# Altium footprint library MAX30205 - TQFN8_1.PcbLib: 1 footprints
Each footprint in its own frame and in the unit in brackets; x right, y up, seen from the top. Pads: shape width x height; smd on the part's side, far side on the other; paste and mask are expansions set on the pad; w line width, h text height; cw(c..) or ccw(c..) is an arc to the next point about the centre after c.
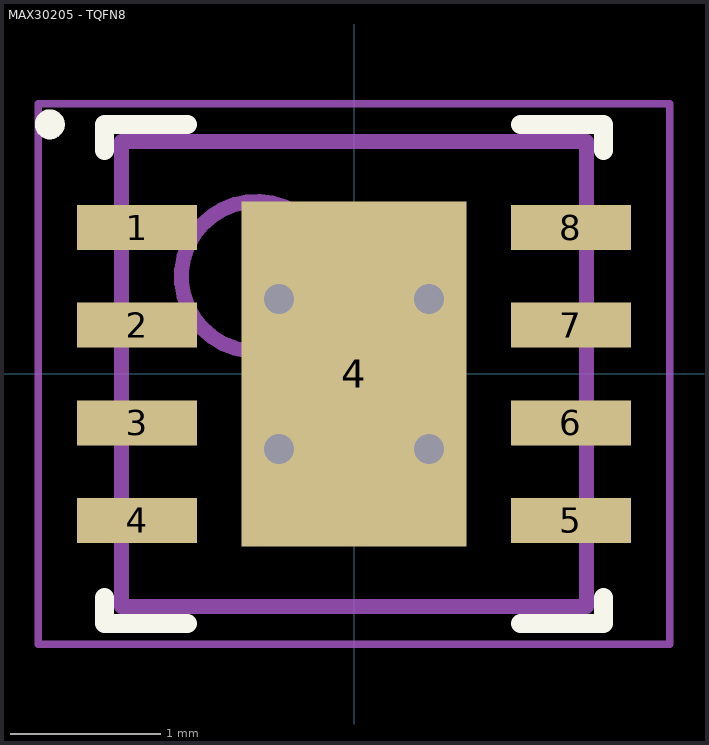
[diagram p0: the footprint, top view; thin cyan lines are the x and y axes]

## MAX30205 - TQFN8 [mm]
height 0.8
pads (9):
  rect 0.8x0.3 smd: 1(-1.445,0.975) 2(-1.445,0.325) 3(-1.445,-0.325) 4(-1.445,-0.975) 5(1.445,-0.975) 6(1.445,-0.325) 7(1.445,0.325) 8(1.445,0.975)
  rect 1.5x2.3 smd paste-0.75: 4(0,0)
via 0.5,-0.5 diameter 0.5 hole 0.2
via -0.5,-0.5 diameter 0.5 hole 0.2
via 0.5,0.5 diameter 0.5 hole 0.2
via -0.5,0.5 diameter 0.5 hole 0.2
Top Overlay:
  circle w0.1: c-2.027,1.663 r0.05
  lines w0.127: -1.664,-1.489 -1.664,-1.664 -1.109,-1.664 ; -1.664,1.488 -1.664,1.663 -1.109,1.663 ; 1.108,-1.664 1.663,-1.664 1.663,-1.489 ; 1.108,1.663 1.663,1.663 1.663,1.488
Top Paste:
  rectangle: 0.64,-2.12 1.52,-0.84
  rectangle: 0.64,-0.64 1.52,0.64
  rectangle: 0.64,0.84 1.52,2.12
  rectangle: -0.44,-2.12 0.44,-0.84
  rectangle: -0.44,-0.64 0.44,0.64
  rectangle: -0.44,0.84 0.44,2.12
  rectangle: -1.52,-2.12 -0.64,-0.84
  rectangle: -1.52,-0.64 -0.64,0.64
  rectangle: -1.52,0.84 -0.64,2.12
Mechanical 13:
  circle w0.1: c-0.65,0.65 r0.5
  lines w0.1: -1.55,-1.55 1.55,-1.55 1.55,1.55 -1.55,1.55 -1.55,-1.55
Mechanical 15:
  lines w0.05: -2.105,-1.8 2.105,-1.8 2.105,1.8 -2.105,1.8 -2.105,-1.8
  lines w0.1: -0.5,0 0.5,0 ; 0,-0.5 0,0.5
3D body "MAX30205 - TQFN8.step": height 0.8, standoff 0, extent -1.551,-1.55 1.551,1.55